# Altium integrated library L08R5000Q1.IntLib: 1 symbol
Pins are listed as number, name and electrical type; pins without a type are passive.

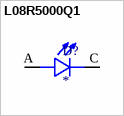
[diagram p0: symbol L08R5000Q1]

## L08R5000Q1
designator D?
LED, Orange, Through Hole, T-1 3/4 (5mm), 30 mA, 2.1 V, 635 nm; MP: L08R5000Q1; Price: None; Value: *; Availability: Unavailable; Package: None
footprint LEDRD254W57D500H1070
pins: A, C